# Altium footprint library rcl.PCBLIB: 487 footprints (part 23 of 31)
Each footprint in its own frame and in the unit in brackets; x right, y up, seen from the top. Pads: shape width x height; smd on the part's side, far side on the other; paste and mask are expansions set on the pad; w line width, h text height; cw(c..) or ccw(c..) is an arc to the next point about the centre after c.
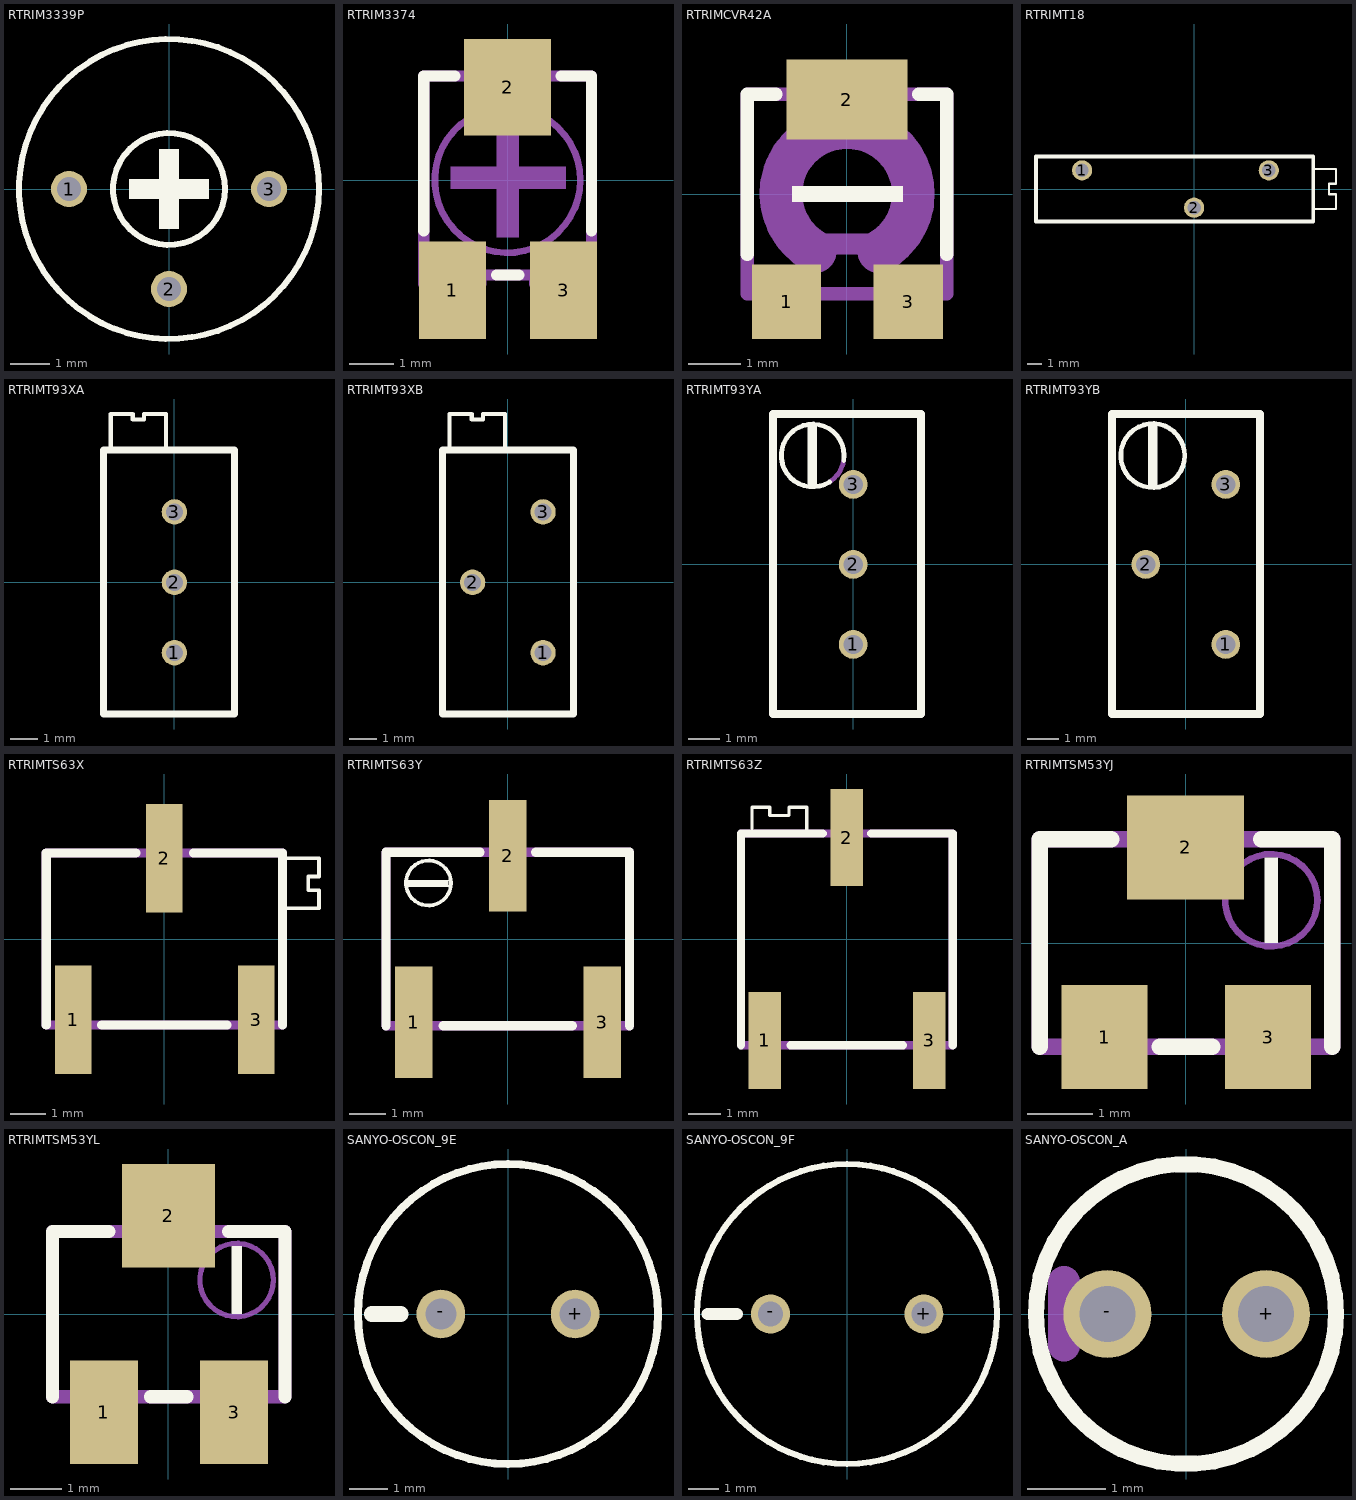
[diagram p22: the footprints below, top view; thin cyan lines are the x and y axes]

## RTRIM3339P [mil]
pads (3):
  round 36 hole 24: 1(-100,0) 2(0,-100) 3(100,0)
Top Overlay:
  circle w6: c0,0 r150
  circle w6: c0,0 r56
  rectangle: -40,-10 40,10
  rectangle: -10,-40 10,40

## RTRIM3374 [mil]
pads (3):
  rect 60x87 smd: 1(-49.21,-98.43) 3(50,-98.43)
  rect 78x86 smd: 2(0,83)
Top Overlay:
  lines w10: -74.8,-45.28 -74.8,93 -47.24,93 ; -9.84,-84.65 10,-84.65 ; 48,93 75,93 75,-45.28
Mechanical 16:
  circle w6: c0,0 r65
  rectangle: -9.84,-51.18 10,52
  rectangle: -51.18,-7.87 52,12
  lines w10: -74.8,-92.52 -23.62,-92.52 -23.62,-84.65 24,-84.65 24,-92.52 75,-92.52 75,93 -74.8,93 -74.8,-92.52

## RTRIMCVR42A [mil]
pads (3):
  rect 52x56 smd: 1(-45.28,-80.71) 3(46,-80.71)
  rect 91x60 smd: 2(0,71)
Top Overlay:
  rectangle: -41.34,-5.91 42,6
  lines w10: -74.8,-45.28 -74.8,75 -53.15,75 ; 54,75 75,75 75,-45.28
Mechanical 16:
  rectangle: -25.59,-45.28 26,-29.53
  lines w10: -74.8,-74.8 -74.8,75 75,75 75,-74.8 -74.8,-74.8
  lines w32: -23.62,-43.31 cw(c0.19,0.35) 24,-43.31

## RTRIMT18 [mil]
pads (3):
  round 54 hole 36: 1(-300,50) 2(0,-50) 3(200,50)
Top Overlay:
  lines w6: 323,-53.15 380,-53.15 380,-13.78 361,-13.78 361,14 380,14 380,54 323,54
  lines w10: -423.23,-86.61 -423.23,87 319,87 319,-86.61 -423.23,-86.61

## RTRIMT93XA [mil]
pads (3):
  round 36 hole 24: 1(0,-100) 2(0,0) 3(0,100)
Top Overlay:
  lines w6: -90.55,193 -90.55,239 -59.06,239 -59.06,231 -43.31,231 -43.31,239 -11.81,239 -11.81,193
  lines w10: -100.39,-187.01 -100.39,188 85,188 85,-187.01 -100.39,-187.01

## RTRIMT93XB [mil]
pads (3):
  round 36 hole 24: 1(50,-100) 2(-50,0) 3(50,100)
Top Overlay:
  lines w6: -82.68,193 -82.68,239 -51.18,239 -51.18,231 -35.43,231 -35.43,239 -3.94,239 -3.94,193
  lines w10: -92.52,-187.01 -92.52,188 93,188 93,-187.01 -92.52,-187.01

## RTRIMT93YA [mil]
pads (3):
  round 36 hole 24: 1(0,-100) 2(0,0) 3(0,100)
Top Overlay:
  rectangle: -57.09,99 -45.28,174
  lines w6: -29.53,103 cw(c-50.56,136.11) -11.81,130
  lines w10: -100.39,-187.01 -100.39,188 85,188 85,-187.01 -100.39,-187.01
Mechanical 16:
  lines w6: -29.53,103 ccw(c-50.56,136.11) -11.81,130

## RTRIMT93YB [mil]
pads (3):
  round 36 hole 24: 1(50,-100) 2(-50,0) 3(50,100)
Top Overlay:
  circle w6: c-41.34,136 r40
  rectangle: -47.24,99 -35.43,174
  lines w10: -92.52,-187.01 -92.52,188 93,188 93,-187.01 -92.52,-187.01

## RTRIMTS63X [mil]
pads (3):
  rect 40x119 smd: 1(-100.39,-88.58) 2(0,89) 3(101,-88.58)
Top Overlay:
  lines w4: 134,34 170,34 170,54 158,54 158,69 170,69 170,89 134,89
  lines w10: -129.92,-94.49 -129.92,95 -31.5,95 ; -68.9,-94.49 69,-94.49 ; 32,95 130,95 130,-94.49
Mechanical 16:
  rectangle: -9.84,99 10,132
  rectangle: 91,-131.89 111,-98.43
  rectangle: -110.24,-131.89 -90.55,-98.43
  lines w10: -129.92,-94.49 -129.92,95 130,95 130,-94.49 -129.92,-94.49

## RTRIMTS63Y [mil]
pads (3):
  rect 40x119 smd: 1(-100.39,-88.58) 2(0,89) 3(101,-88.58)
Top Overlay:
  circle w4: c-84.65,60 r24
  rectangle: -106.3,56 -62.99,63
  lines w10: -129.92,-92.52 -129.92,93 -29.53,93 ; -68.9,-92.52 69,-92.52 ; 30,93 130,93 130,-92.52
Mechanical 16:
  rectangle: -11.81,97 12,119
  rectangle: -112.2,-118.11 -88.58,-96.46
  rectangle: 89,-118.11 113,-96.46
  lines w10: -129.92,-92.52 -129.92,93 130,93 130,-92.52 -129.92,-92.52

## RTRIMTS63Z [mil]
pads (3):
  rect 40x119 smd: 1(-100.39,-124.02) 2(0,125) 3(101,-124.02)
Top Overlay:
  lines w4: -116.14,136 -116.14,162 -94.49,162 -94.49,152 -70.87,152 -70.87,162 -49.21,162 -49.21,134
  lines w10: -129.92,-129.92 -129.92,130 -29.53,130 ; -68.9,-129.92 69,-129.92 ; 30,130 130,130 130,-129.92
Mechanical 16:
  rectangle: -11.81,134 12,174
  rectangle: -112.2,-173.23 -88.58,-133.86
  rectangle: 89,-173.23 113,-133.86
  lines w10: -129.92,-129.92 -129.92,130 130,130 130,-129.92 -129.92,-129.92

## RTRIMTSM53YJ [mil]
pads (3):
  rect 52x63 smd: 1(-49.21,-57.09) 3(50,-57.09)
  rect 71x63 smd: 2(0,58)
Top Overlay:
  rectangle: 48,0 56,52
  lines w10: -88.58,-62.99 -88.58,63 -45.28,63 ; -15.75,-62.99 16,-62.99 ; 46,63 89,63 89,-62.99
Mechanical 16:
  circle w4: c52,26 r28
  rectangle: -11.81,67 12,75
  rectangle: -62.99,-74.8 -39.37,-66.93
  rectangle: 38,-74.8 62,-66.93
  lines w10: -88.58,-62.99 -88.58,63 89,63 89,-62.99 -88.58,-62.99

## RTRIMTSM53YL [mil]
pads (3):
  rect 52x79 smd: 1(-49.21,-74.8) 3(50,-74.8)
  rect 71x79 smd: 2(0,75)
Top Overlay:
  rectangle: 48,0 56,52
  lines w10: -88.58,-62.99 -88.58,63 -45.28,63 ; -13.78,-62.99 14,-62.99 ; 46,63 89,63 89,-62.99
Mechanical 16:
  circle w4: c52,26 r28
  rectangle: -11.81,67 12,101
  rectangle: -61.02,-100.39 -37.4,-66.93
  rectangle: 38,-100.39 62,-66.93
  lines w10: -88.58,-62.99 -88.58,63 89,63 89,-62.99 -88.58,-62.99

## SANYO-OSCON_9E [mil]
pads (2):
  round 50 hole 32: +(69,0) -(-68.9,0)
Top Overlay:
  circle w8: c0,0 r154
  lines w16: -139.76,0 -110.24,0

## SANYO-OSCON_9F [mil]
pads (2):
  round 50 hole 32: +(99,0) -(-98.43,0)
Top Overlay:
  circle w8: c0,0 r193
  lines w16: -179.13,0 -141.73,0

## SANYO-OSCON_A [mil]
pads (2):
  round 44 hole 28: +(40,0) -(-39.37,0)
Top Overlay:
  circle w8: c0,0 r75
Mechanical 16:
  lines w16: -61.02,-15.75 -61.02,16